# Altium footprint library DIP-CN  0607.PcbLib: 329 footprints (part 8 of 21)
Each footprint in its own frame and in the unit in brackets; x right, y up, seen from the top. Pads: shape width x height; smd on the part's side, far side on the other; paste and mask are expansions set on the pad; w line width, h text height; cw(c..) or ccw(c..) is an arc to the next point about the centre after c.
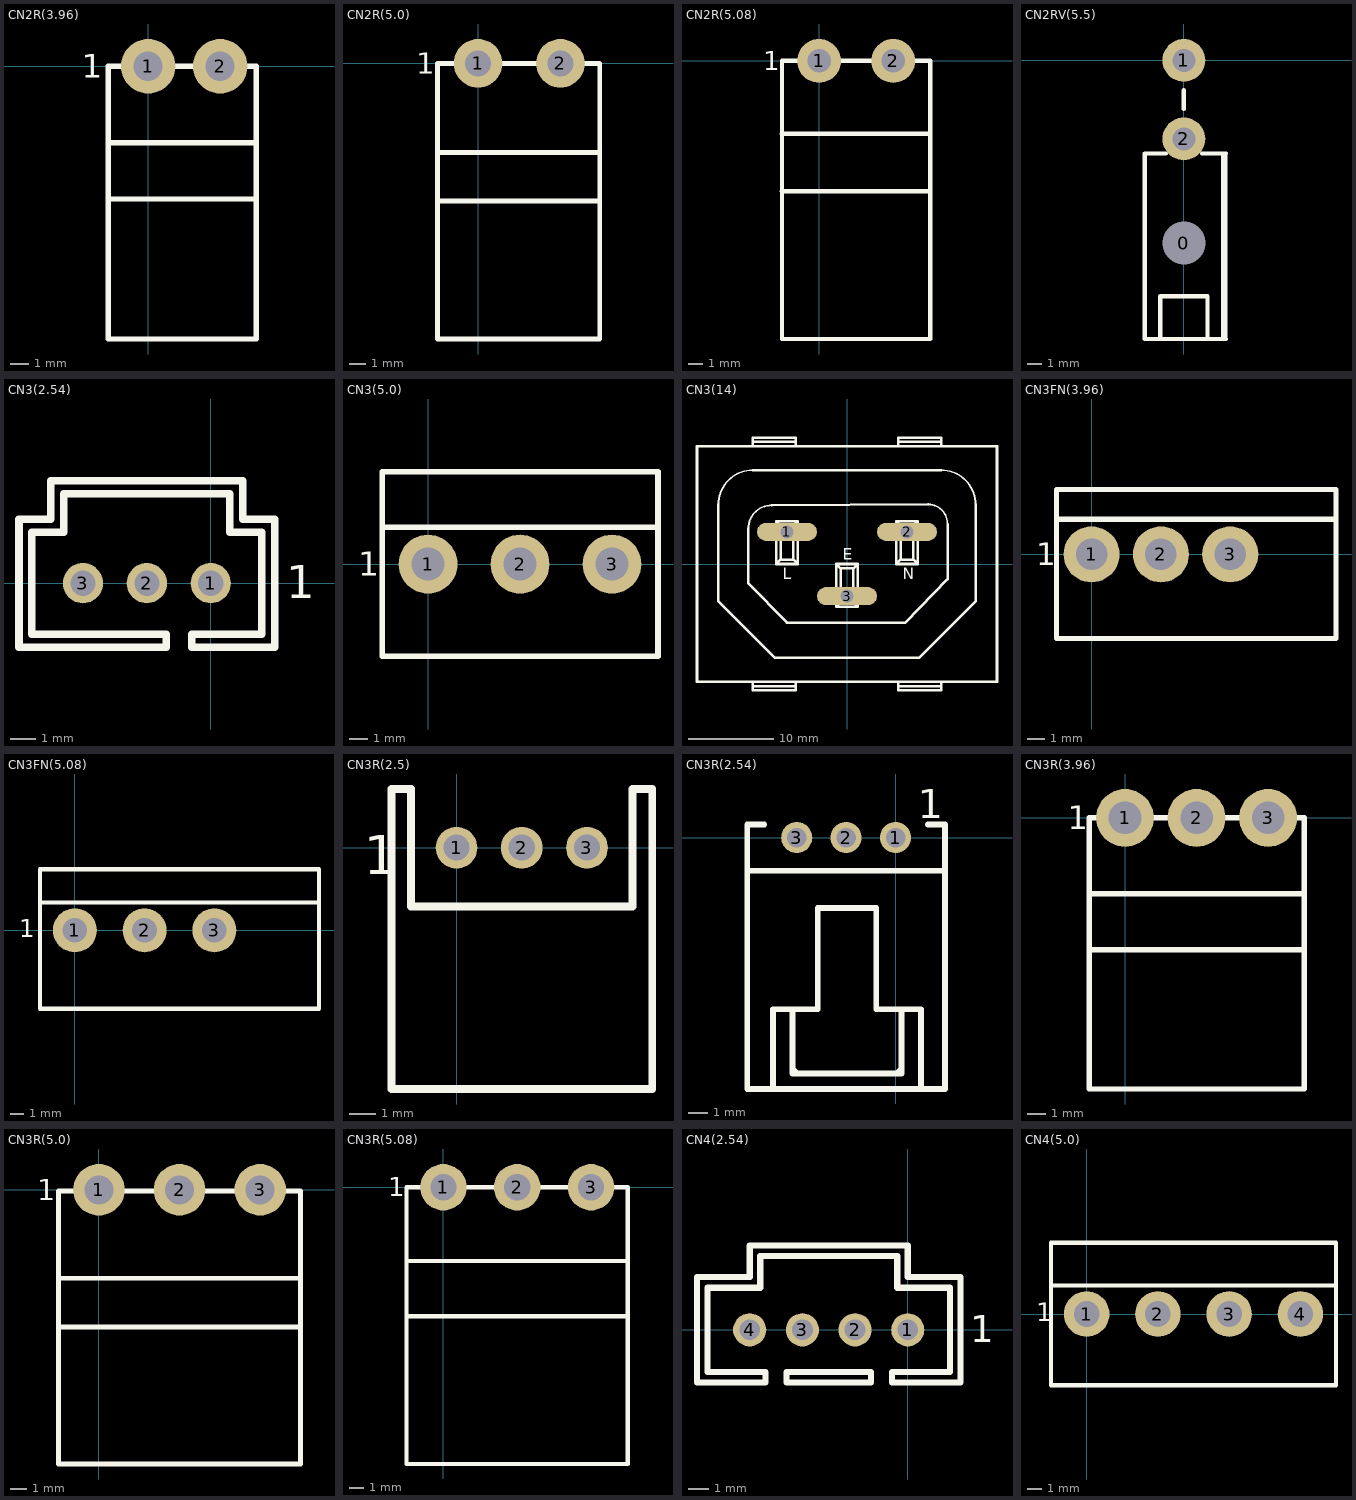
[diagram p7: the footprints below, top view; thin cyan lines are the x and y axes]

## CN2R(3.96) [mm]
pads (2):
  round 3 hole 1.6: 1(0.002,0) 2(3.962,0)
TopOverlay:
  lines w0.3: -2.19,-7.3 5.96,-7.3 ; -2.19,-4.2 5.96,-4.2 ; -2.19,0 -2.19,-15 5.96,-15 5.96,0 -2.134,0
  text "1" at -3.658,-0.635 h1.3

## CN2R(5.0) [mm]
pads (2):
  round 3 hole 1.6: 1(0,0) 2(5.08,0)
TopOverlay:
  lines w0.3: -2.5,-8.5 7.5,-8.5 ; -2.5,-5.5 7.5,-5.5 ; -2.5,-17 -2.5,0 7.5,0 7.5,-17 -2.5,-17
  text "1" at -3.81,-0.635 h1.3

## CN2R(5.08) [mm]
pads (2):
  round 3 hole 1.6: 1(0,0) 2(5.08,0)
TopOverlay:
  lines w0.3: -2.559,-8.935 7.635,-8.935 ; -2.559,-5 7.635,-5 ; -2.54,-19.05 7.62,-19.05 7.62,0 -2.54,0 -2.54,-19.05
  text "1" at -3.81,-0.635 h1.3

## CN2RV(5.5) [mm]
pads (3):
  round 2 hole 3: 0(0,-12.8)
  round 3 hole 1.6: 1(0,0) 2(0,-5.5)
TopOverlay:
  rectangle: 2.75,-19.52 3.05,-6.52
  lines w0.3: -1.65,-19.52 -1.65,-16.52 1.65,-16.52 1.65,-19.52 ; -1.275,-6.52 -2.75,-6.52 -2.75,-19.52 2.75,-19.52 ; 0,-3.4 0,-2.1 ; 1.275,-6.52 2.75,-6.52 ; 2.95,-19.52 2.75,-19.52 ; 2.95,-6.52 2.75,-6.52 ; 2.75,-19.52 2.75,-6.52

## CN3(2.54) [mm]
pads (3):
  round 1.6 hole 1: 1(0,0) 2(-2.54,0) 3(-5.08,0)
TopOverlay:
  lines w0.3: -7.62,-2.54 -7.62,2.54 -6.35,2.54 -6.35,4.064 1.27,4.064 1.27,2.54 2.54,2.54 2.54,-2.54 -0.762,-2.54 -0.762,-2.032 2.032,-2.032 2.032,2.032 0.762,2.032 0.762,3.556 -5.842,3.556 -5.842,2.032 -7.112,2.032 -7.112,-2.032 -1.778,-2.032 -1.778,-2.54 -7.62,-2.54
  text "1" at 3,-0.6 h1.3
BottomOverlay:
  lines w0.3: -3.81,-1.27 -3.81,1.27 ; -1.27,-1.27 -1.27,1.27

## CN3(5.0) [mm]
pads (3):
  round 3.2 hole 1.8: 1(0,0) 2(5,0) 3(10,0)
TopOverlay:
  lines w0.3: -2.5,2.016 12.5,2.016 ; -2.5,-5 12.5,-5 12.5,5.016 -2.5,5.016 -2.5,-5
  text "1" at -3.81,-0.635 h1.3

## CN3(14) [mm]
pads (3):
  oval 7x2.1 hole 1.5: 1(-7,3.75) 2(7,3.75) 3(0,-3.75)
TopOverlay:
  lines w0.2: -15,6.95 cw(c-11,6.95) -11,10.95 ; -11.5,4.15 cw(c-8.8,4.15) -8.8,6.85 ; 9.5,6.95 cw(c9.5,4.75) 11.7,4.75 ; 11,10.95 cw(c11,6.95) 15,6.95
  lines w0.3: -15,6.95 -15,-4.35 -8.4,-10.95 8.4,-10.95 15,-4.35 15,6.95 ; -11.5,4.15 -11.5,-2.25 -7,-6.85 6.8,-6.85 11.75,-1.75 11.75,4.65 ; -11,-14.25 -6,-14.25 ; -11,-13.75 -11,-14.75 -6,-14.75 -6,-13.75 ; -11,10.95 11,10.95 ; -11,13.75 -11,14.75 -6,14.75 -6,13.75 ; -11,14.25 -6,14.25 ; -8.8,6.85 9.5,6.95 ; 6,-14.25 11,-14.25 ; 6,-13.75 6,-14.75 11,-14.75 11,-13.75 ; 6,13.75 6,14.75 11,14.75 11,13.75 ; 6,14.25 11,14.25 ; -8.25,0 -5.75,0 ; -8.25,0 -8.25,5 ; -8.25,0 -7.75,0.5 ; -8.25,5 -5.75,5 ; -8.25,5 -7.75,4.5 -7.75,0.5 ; -7.75,0.5 -6.25,0.5 ; -6.25,0.5 -5.75,0 ; -6.25,0.5 -6.25,4.5 -5.75,5 ; -5.75,0 -5.75,5 ; -1.25,-5 -1.25,0 ; -1.25,-5 1.25,-5 ; -1.25,-5 -0.75,-4.5 -0.75,-0.5 ; -1.25,0 1.25,0 ; -1.25,0 -0.75,-0.5 ; -0.75,-0.5 0.75,-0.5 ; 0.75,-0.5 1.25,0 ; 0.75,-0.5 0.75,-4.5 1.25,-5 ; 1.25,-5 1.25,0 ; 5.75,0 5.75,5 ; 5.75,0 8.25,0 ; 5.75,0 6.25,0.5 ; 5.75,5 8.25,5 ; 5.75,5 6.25,4.5 6.25,0.5 ; 6.25,0.5 7.75,0.5 ; 7.75,0.5 8.25,0 ; 7.75,0.5 7.75,4.5 8.25,5 ; 8.25,0 8.25,5 ; -17.5,-13.75 17.5,-13.75 17.5,13.75 -17.5,13.75 -17.5,-13.75
  text "L" at -7.5,-1.75 h1.3
  text "N" at 6.5,-1.75 h1.3
  text "E" at -0.5,0.5 h1.3
DrillDrawing:
  lines w0.2: -8.75,3 cw(c-8.75,3.75) -8.75,4.5 ; -5.25,3 ccw(c-5.25,3.75) -5.25,4.5 ; -1.75,-4.5 cw(c-1.75,-3.75) -1.75,-3 ; 1.75,-4.5 ccw(c1.75,-3.75) 1.75,-3 ; 5.25,3 cw(c5.25,3.75) 5.25,4.5 ; 8.75,3 ccw(c8.75,3.75) 8.75,4.5
  lines w0.3: -9.5,3.75 -4.525,3.75 ; -8.75,3 -5.25,3 ; -8.75,4.5 -5.25,4.5 ; -7,3 -7,4.5 ; -2.5,-3.75 2.475,-3.75 ; -1.75,-4.5 1.75,-4.5 ; -1.75,-3 1.75,-3 ; 0,-4.5 0,-3 ; 4.5,3.75 9.475,3.75 ; 5.25,3 8.75,3 ; 5.25,4.5 8.75,4.5 ; 7,3 7,4.5
  text "5X1.5mm" at -4.064,-2.032 h1.3
  text "5X1.5mm" at -11.176,5.08 h1.3
  text "5X1.5mm" at 3.048,5.08 h1.3

## CN3FN(3.96) [mm]
pads (3):
  round 3.2 hole 1.8: 1(0,0) 2(3.96,0) 3(7.92,0)
TopOverlay:
  lines w0.3: -2,2 10,2 13.928,2 ; -2,-4.8 -2,3.7 13.96,3.7 13.96,-4.8 -2,-4.8
  text "1" at -3.175,-0.635 h1.3

## CN3FN(5.08) [mm]
pads (3):
  round 3.2 hole 1.8: 1(0,0) 2(5.08,0) 3(10.16,0)
TopOverlay:
  lines w0.3: -2.54,-5.715 17.78,-5.715 17.78,4.445 -2.54,4.445 -2.54,-5.635 ; -2.54,2.01 17.758,2.01
  text "1" at -4.064,-0.508 h1.3

## CN3R(2.5) [mm]
pads (3):
  round 1.6 hole 1: 1(0,0) 2(2.5,0) 3(5,0)
TopOverlay:
  lines w0.3: -2.5,-9.25 7.5,-9.25 7.5,2.25 6.75,2.25 6.75,-2.25 -1.75,-2.25 -1.75,2.25 -2.5,2.25 -2.5,-9.25
  text "1" at -3.556,-1.016 h1.5
BottomOverlay:
  lines w0.3: 1.27,-1.009 1.27,0.991 ; 3.759,-1.016 3.759,0.984

## CN3R(2.54) [mm]
pads (3):
  round 1.6 hole 1: 1(0,0) 2(-2.54,0) 3(-5.08,0)
TopOverlay:
  lines w0.2: -5.295,-11.624 ccw(c-4.795,-11.624) -4.795,-12.124 ; -0.195,-12.124 ccw(c-0.195,-11.624) 0.305,-11.624
  lines w0.3: -7.58,-1.7 2.5,-1.7 ; -6.75,0.68 -7.62,0.68 -7.62,-12.92 2.54,-12.92 2.54,0.68 1.67,0.68 ; -6.295,-12.824 -6.295,-10.124 -6.295,-8.824 -5.295,-8.824 ; 1.305,-12.824 1.305,-8.824 0.305,-8.824 ; -5.295,-8.824 -5.295,-12.124 0.305,-12.124 0.305,-8.824 ; -5.295,-8.824 -3.995,-8.824 -3.995,-3.624 -0.995,-3.624 -0.995,-8.824 0.305,-8.824
  text "1" at 1.13,1 h1.5
BottomOverlay:
  lines w0.3: -3.81,-0.813 -3.81,0.787 ; -1.27,-0.813 -1.27,0.787

## CN3R(3.96) [mm]
pads (3):
  round 3.2 hole 1.8: 1(0,0) 2(3.96,0) 3(7.92,0)
TopOverlay:
  lines w0.3: -1.975,-7.3 9.925,-7.3 ; -1.975,-4.2 9.925,-4.2 ; -1.975,0 -1.975,-15 9.925,-15 9.925,0 -1.919,0
  text "1" at -3.175,-0.635 h1.3

## CN3R(5.0) [mm]
pads (3):
  round 3.2 hole 1.8: 1(0,0) 2(5,0) 3(10,0)
TopOverlay:
  lines w0.3: -2.5,-8.5 12.5,-8.5 ; -2.5,-5.484 12.5,-5.484 ; -2.5,-17 12.5,-17 12.5,-0.08 -2.5,-0.08 -2.5,-17
  text "1" at -3.81,-0.635 h1.3

## CN3R(5.08) [mm]
pads (3):
  round 3.2 hole 1.8: 1(0,0) 2(5.08,0) 3(10.16,0)
TopOverlay:
  lines w0.3: -2.54,-8.89 12.7,-8.89 ; -2.54,-5.08 12.7,-5.08 ; -2.54,-19.05 -2.54,0 12.7,0 12.7,-19.05 -2.54,-19.05
  text "1" at -3.81,-0.635 h1.3

## CN4(2.54) [mm]
pads (4):
  round 1.6 hole 1: 1(0,0) 2(-2.54,0) 3(-5.08,0) 4(-7.62,0)
TopOverlay:
  lines w0.3: -10.16,-2.54 -10.16,2.54 -7.62,2.54 -7.62,4.064 0,4.064 0,2.54 2.54,2.54 2.54,-2.54 -0.762,-2.54 -0.762,-2.032 2.032,-2.032 2.032,2.032 -0.508,2.032 -0.508,3.556 -7.112,3.556 -7.112,2.032 -9.652,2.032 -9.652,-2.032 -6.858,-2.032 -6.858,-2.54 -10.16,-2.54 ; -5.842,-2.54 -1.778,-2.54 -1.778,-2.032 -5.842,-2.032 -5.842,-2.54
  text "1" at 3,-0.6 h1.3
BottomOverlay:
  lines w0.3: -6.35,-1.27 -6.35,1.27 ; -3.81,-1.27 -3.81,1.27 ; -1.27,-1.27 -1.27,1.27

## CN4(5.0) [mm]
pads (4):
  round 3.2 hole 1.8: 1(0,0) 2(5,0) 3(10,0) 4(15,0)
TopOverlay:
  lines w0.3: -2.5,2 17.5,2 ; -2.5,-5 17.5,-5 17.5,5 -2.5,5 -2.5,-5
  text "1" at -3.556,-0.508 h1.3